# EAGLE library part AD8226ARZ (library AD8226ARZ)
Wide Supply Range, Rail-to-Rail Output Instrumentation Amplifier Source: Datasheet <http://componentsearchengine.com/Datasheets/3/AD8226ARZ.pdf>
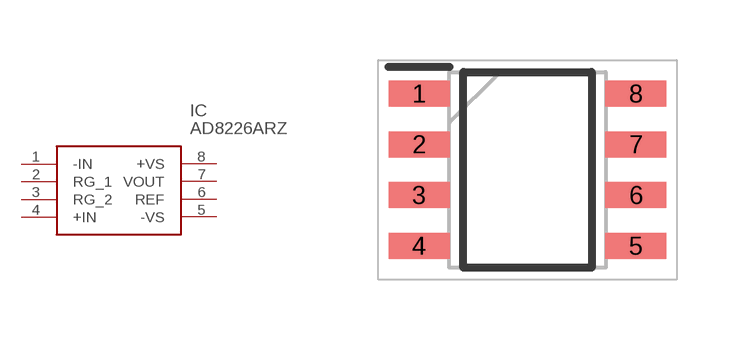
[diagram p0: symbol with the pads of SOIC127P600X175-8N; footprint SOIC127P600X175-8N]

Designator prefix IC

## AD8226ARZ (Description: Wide Supply Range, Rail-to-Rail Output Instrumentation Amplifier; Height: 1.75mm; Manufacturer_Name: Analog Devices; Manufacturer_Part_Number: AD8226ARZ; Mouser_Part_Number: 584-AD8226ARZ; Mouser_Price-Stock: https://www.mouser.co.uk/ProductDetail/Analog-Devices/AD8226ARZ?qs=%2FtpEQrCGXCzihJADRPlhCg%3D%3D)  [SOIC127P600X175-8N]
1  -IN
2  RG_1
3  RG_2
4  +IN
5  -VS
6  REF
7  VOUT
8  +VS

## Footprint SOIC127P600X175-8N (pad centres in mm)
SOIC N
smd 1.525 x 0.65: 1 -2.712,1.905; 2 -2.712,0.635; 3 -2.712,-0.635; 4 -2.712,-1.905; 5 2.712,-1.905; 6 2.712,-0.635; 7 2.712,0.635; 8 2.712,1.905